# EAGLE library part KS8995MA (library micrel)
5 Port Managed Ethernet Switch
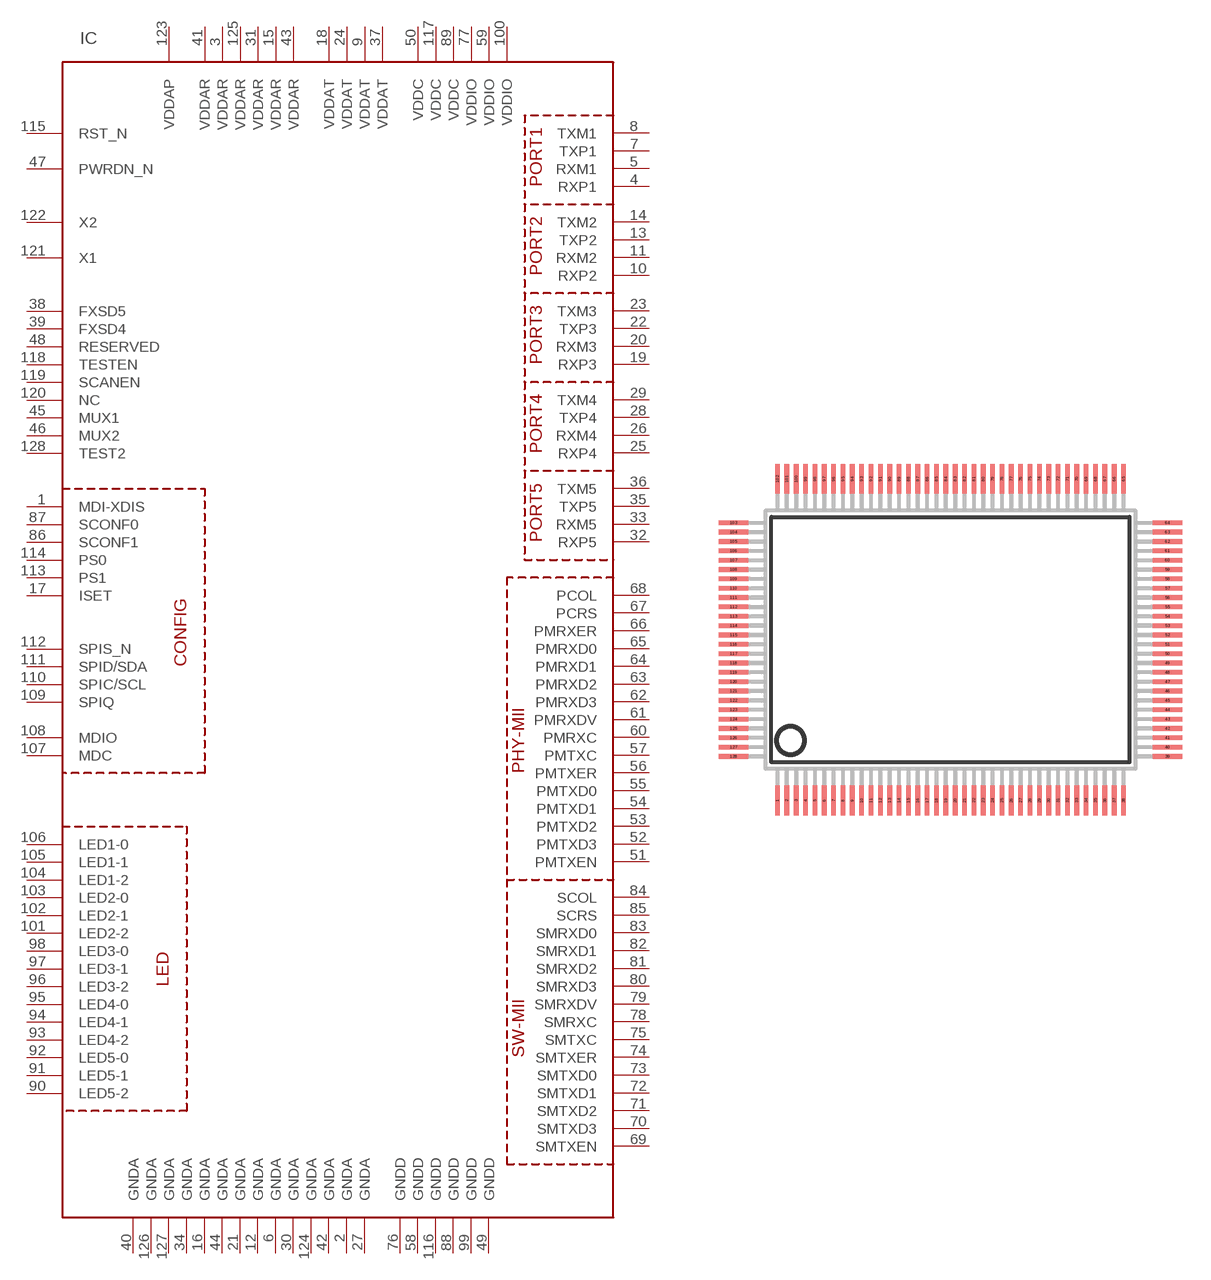
[diagram p0: symbol with the pads of PQFP128L; footprint PQFP128L]

Designator prefix IC

## KS8995MA  [PQFP128L]
1  MDI-XDIS
2  GNDA
3  VDDAR
4  RXP1
5  RXM1
6  GNDA
7  TXP1
8  TXM1
9  VDDAT
10  RXP2
11  RXM2
12  GNDA
13  TXP2
14  TXM2
15  VDDAR
16  GNDA
17  ISET
18  VDDAT
19  RXP3
20  RXM3
21  GNDA
22  TXP3
23  TXM3
24  VDDAT
25  RXP4
26  RXM4
27  GNDA
28  TXP4
29  TXM4
30  GNDA
31  VDDAR
32  RXP5
33  RXM5
34  GNDA
35  TXP5
36  TXM5
37  VDDAT
38  FXSD5
39  FXSD4
40  GNDA
41  VDDAR
42  GNDA
43  VDDAR
44  GNDA
45  MUX1
46  MUX2
47  PWRDN_N
48  RESERVED
49  GNDD
50  VDDC
51  PMTXEN
52  PMTXD3
53  PMTXD2
54  PMTXD1
55  PMTXD0
56  PMTXER
57  PMTXC
58  GNDD
59  VDDIO
60  PMRXC
61  PMRXDV
62  PMRXD3
63  PMRXD2
64  PMRXD1
65  PMRXD0
66  PMRXER
67  PCRS
68  PCOL
69  SMTXEN
70  SMTXD3
71  SMTXD2
72  SMTXD1
73  SMTXD0
74  SMTXER
75  SMTXC
76  GNDD
77  VDDIO
78  SMRXC
79  SMRXDV
80  SMRXD3
81  SMRXD2
82  SMRXD1
83  SMRXD0
84  SCOL
85  SCRS
86  SCONF1
87  SCONF0
88  GNDD
89  VDDC
90  LED5-2
91  LED5-1
92  LED5-0
93  LED4-2
94  LED4-1
95  LED4-0
96  LED3-2
97  LED3-1
98  LED3-0
99  GNDD
100  VDDIO
101  LED2-2
102  LED2-1
103  LED2-0
104  LED1-2
105  LED1-1
106  LED1-0
107  MDC
108  MDIO
109  SPIQ
110  SPIC/SCL
111  SPID/SDA
112  SPIS_N
113  PS1
114  PS0
115  RST_N
116  GNDD
117  VDDC
118  TESTEN
119  SCANEN
120  NC
121  X1
122  X2
123  VDDAP
124  GNDA
125  VDDAR
126  GNDA
127  GNDA
128  TEST2

## Footprint PQFP128L (pad centres in mm)
PQFP-128L ADVANCED DEMICONDUCTOR ENGENEERING. INC Package Outline 14x20x2.72 mm / 3.9mm Footprint Source PQFP-128.pdf
smd 0.25 x 1.6: 1 -9.25,-8.6; 2 -8.75,-8.6; 3 -8.25,-8.6; 4 -7.75,-8.6; 5 -7.25,-8.6; 6 -6.75,-8.6; 7 -6.25,-8.6; 8 -5.75,-8.6; 9 -5.25,-8.6; 10 -4.75,-8.6; 11 -4.25,-8.6; 12 -3.75,-8.6; 13 -3.25,-8.6; 14 -2.75,-8.6; 15 -2.25,-8.6; 16 -1.75,-8.6; 17 -1.25,-8.6; 18 -0.75,-8.6; 19 -0.25,-8.6; 20 0.25,-8.6; 21 0.75,-8.6; 22 1.25,-8.6; 23 1.75,-8.6; 24 2.25,-8.6; 25 2.75,-8.6; 26 3.25,-8.6; 27 3.75,-8.6; 28 4.25,-8.6; 29 4.75,-8.6; 30 5.25,-8.6; 31 5.75,-8.6; 32 6.25,-8.6; 33 6.75,-8.6; 34 7.25,-8.6; 35 7.75,-8.6; 36 8.25,-8.6; 37 8.75,-8.6; 38 9.25,-8.6; 65 9.25,8.6; 66 8.75,8.6; 67 8.25,8.6; 68 7.75,8.6; 69 7.25,8.6; 70 6.75,8.6; 71 6.25,8.6; 72 5.75,8.6; 73 5.25,8.6; 74 4.75,8.6; 75 4.25,8.6; 76 3.75,8.6; 77 3.25,8.6; 78 2.75,8.6; 79 2.25,8.6; 80 1.75,8.6; 81 1.25,8.6; 82 0.75,8.6; 83 0.25,8.6; 84 -0.25,8.6; 85 -0.75,8.6; 86 -1.25,8.6; 87 -1.75,8.6; 88 -2.25,8.6; 89 -2.75,8.6; 90 -3.25,8.6; 91 -3.75,8.6; 92 -4.25,8.6; 93 -4.75,8.6; 94 -5.25,8.6; 95 -5.75,8.6; 96 -6.25,8.6; 97 -6.75,8.6; 98 -7.25,8.6; 99 -7.75,8.6; 100 -8.25,8.6; 101 -8.75,8.6; 102 -9.25,8.6
smd 1.6 x 0.25: 39 11.6,-6.25; 40 11.6,-5.75; 41 11.6,-5.25; 42 11.6,-4.75; 43 11.6,-4.25; 44 11.6,-3.75; 45 11.6,-3.25; 46 11.6,-2.75; 47 11.6,-2.25; 48 11.6,-1.75; 49 11.6,-1.25; 50 11.6,-0.75; 51 11.6,-0.25; 52 11.6,0.25; 53 11.6,0.75; 54 11.6,1.25; 55 11.6,1.75; 56 11.6,2.25; 57 11.6,2.75; 58 11.6,3.25; 59 11.6,3.75; 60 11.6,4.25; 61 11.6,4.75; 62 11.6,5.25; 63 11.6,5.75; 64 11.6,6.25; 103 -11.6,6.25; 104 -11.6,5.75; 105 -11.6,5.25; 106 -11.6,4.75; 107 -11.6,4.25; 108 -11.6,3.75; 109 -11.6,3.25; 110 -11.6,2.75; 111 -11.6,2.25; 112 -11.6,1.75; 113 -11.6,1.25; 114 -11.6,0.75; 115 -11.6,0.25; 116 -11.6,-0.25; 117 -11.6,-0.75; 118 -11.6,-1.25; 119 -11.6,-1.75; 120 -11.6,-2.25; 121 -11.6,-2.75; 122 -11.6,-3.25; 123 -11.6,-3.75; 124 -11.6,-4.25; 125 -11.6,-4.75; 126 -11.6,-5.25; 127 -11.6,-5.75; 128 -11.6,-6.25